# Altium footprint library DC-DC_conwertor.PcbLib: 10 footprints
Each footprint in its own frame and in the unit in brackets; x right, y up, seen from the top. Pads: shape width x height; smd on the part's side, far side on the other; paste and mask are expansions set on the pad; w line width, h text height; cw(c..) or ccw(c..) is an arc to the next point about the centre after c.
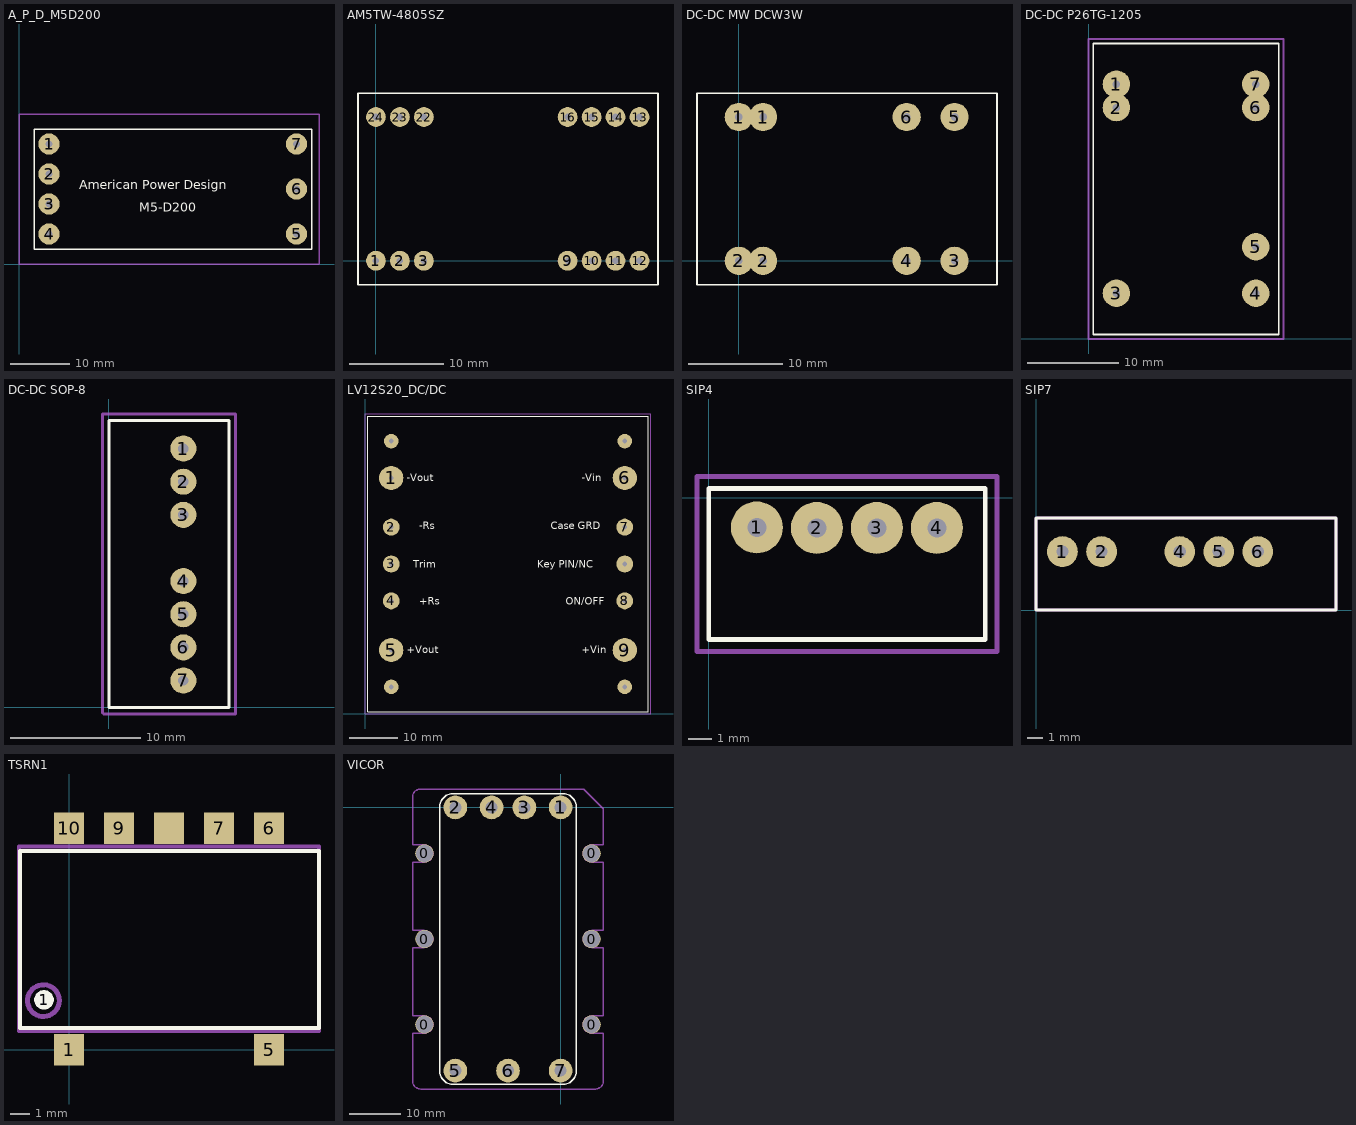
[diagram p0: the footprints below, top view; thin cyan lines are the x and y axes]

## A_P_D_M5D200 [mm]
pads (7):
  round 3.6 hole 1.2: 1(5.08,20.32) 2(5.08,15.24) 3(5.08,10.16) 4(5.08,5.08) 5(46.99,5.08) 6(46.99,12.7) 7(46.99,20.32)
Top Overlay:
  lines w0.254: 2.54,2.54 49.53,2.54 49.53,22.86 2.54,22.86 2.54,2.54
  text "American Power Design" at 10.16,12.7 h1.52
  text "M5-D200" at 20.32,8.89 h1.52
Mechanical 15:
  lines w0.254: 0,0 50.8,0 50.8,25.4 0,25.4 0,0

## AM5TW-4805SZ [mm]
pads (14):
  round 2.1 hole 0.7: 1(0,0) 2(2.54,0) 3(5.08,0) 9(20.32,0) 10(22.86,0) 11(25.4,0) 12(27.94,0) 13(27.94,15.24) 14(25.4,15.24) 15(22.86,15.24) 16(20.32,15.24) 22(5.08,15.24) 23(2.54,15.24) 24(0,15.24)
Top Overlay:
  lines w0.2: -1.9,-2.54 29.9,-2.54 29.9,17.76 -1.9,17.76 -1.9,-2.54
3D body "vawq3-q24-d12h.stp": height 10.2, standoff -3.8, extent -2.01,-2.522 29.79,17.778

## DC-DC MW DCW3W [mm]
pads (8):
  round 3 hole 0.8: 1(0,15.24) 1(2.56,15.24) 2(0,0) 2(2.56,0) 3(22.86,0) 4(17.78,0) 5(22.86,15.24) 6(17.78,15.24)
Top Overlay:
  lines w0.2: -4.44,-2.54 -4.44,17.76 27.36,17.76 27.36,-2.54 -4.44,-2.54
3D body "vawq3-q24-d12h.stp": height 10.2, standoff -3.8, extent -4.55,-2.522 27.25,17.778

## DC-DC P26TG-1205 [mm]
pads (7):
  round 3 hole 0.8: 1(3.04,27.86) 2(3.04,25.3) 3(3.04,5) 4(18.28,5) 5(18.28,10.08) 6(18.28,25.3) 7(18.28,27.86)
Top Overlay:
  lines w0.2: 0.5,0.5 20.8,0.5 20.8,32.3 0.5,32.3 0.5,0.5
Mechanical 15:
  lines w0.2: 0,0 0,32.8 21.3,32.8 21.3,0 0,0

## DC-DC SOP-8 [mm]
pads (7):
  round 2 hole 0.8: 1(5.7,19.85) 2(5.7,17.31) 3(5.7,14.77) 4(5.7,9.69) 5(5.7,7.15) 6(5.7,4.61) 7(5.7,2.07)
Top Overlay:
  lines w0.2: 0,0 9.2,0 9.2,22 0,22 0,0
Mechanical 15:
  lines w0.2: -0.5,-0.4 -0.4,-0.5 9.7,-0.5 9.7,22.5 -0.5,22.5 -0.5,-0.4

## LV12S20_DC/DC [mm]
pads (14):
  round 5 hole 1: 1(5.37,48.78) 5(5.37,13.22) 6(53.63,48.78) 9(53.63,13.22)
  round 3.5 hole 1: 2(5.37,38.62) 3(5.37,31) 4(5.37,23.38) 7(53.63,38.62) 8(53.63,23.38) ""(53.63,31)
  round 3 hole 1: ""(5.37,5.6) ""(5.37,56.4) ""(53.63,5.6) ""(53.63,56.4)
Top Overlay:
  lines w0.2: 0.5,0.5 0.5,61.5 58.45,61.5 58.45,0.5 0.5,0.5
  text "ON/OFF" at 41.399,22.6 h1.52
  text "Key PIN/NC" at 35.559,30.192 h1.52
  text "Case GRD" at 38.352,38.2 h1.52
  text "+Vin" at 44.7,12.6 h1.52
  text "-Vin" at 44.7,48.1 h1.52
  text "+Rs" at 11.139,22.6 h1.52
  text "-Rs" at 11.139,38.2 h1.52
  text "Trim" at 9.87,30.192 h1.52
  text "+Vout" at 8.6,12.6 h1.52
  text "-Vout" at 8.6,48.1 h1.52
Mechanical 15:
  lines w0.2: 0,0 59,0 59,62 0,62 0,0

## SIP4 [mm]
pads (4):
  round 2.2 hole 0.8: 1(2.032,-1.25) 2(4.572,-1.27) 3(7.112,-1.27) 4(9.652,-1.27)
Top Overlay:
  lines w0.2: 0,-6 0,0.4 0.4,0.4 2,0.4 11.7,0.4 11.7,-6 0,-6
Mechanical 15:
  lines w0.2: -0.5,-6.5 -0.5,0.9 12.2,0.9 12.2,-6.5 -0.5,-6.5

## SIP7 [mm]
pads (5):
  round 2 hole 0.8: 1(1.72,3.81) 2(4.26,3.81) 4(9.34,3.81) 5(11.88,3.81) 6(14.42,3.81)
Top Overlay:
  lines w0.2: 0,0 19.5,0 19.5,6 0,6 0,0
TopAssy:
  lines w0.2: 0,0 0,6 19.5,6 19.5,0 0,0
3D body: height 10, standoff 0, extent 0.001,0.001 19.499,5.999
3D body: height 0, standoff -2, extent 1.323,3.411 2.12,4.209
3D body: height 0, standoff -2, extent 3.863,3.411 4.66,4.209
3D body: height 0, standoff -2, extent 8.943,3.411 9.74,4.209
3D body: height 0, standoff -2, extent 11.483,3.411 12.28,4.209
3D body: height 0, standoff -2, extent 14.023,3.411 14.82,4.209

## TSRN1 [mm]
pads (8):
  round 1 on Top Overlay: 1(-1.27,2.54)
  rect 1.5x1.6 smd: 1(0,0) 5(10.16,0) 6(10.16,11.26) 7(7.62,11.26) 9(2.54,11.26) 10(0,11.26) ""(5.08,11.26)
Top Overlay:
  lines w0.2: -2.5,1.1 -2.5,10.1 12.7,10.1 12.7,1.1 -2.5,1.1
TopAssy:
  circle w0.254: c-1.3,2.5 r0.806
  lines w0.2: -2.54,0.965 12.7,0.965 12.7,10.325 -2.54,10.325 -2.54,0.965

## VICOR [mil]
height 500
pads (13):
  round 140 hole 130: 0(-1035,-1650) 0(-1035,-1000) 0(-1035,-350) 0(235,-1650) 0(235,-1000) 0(235,-350)
  round 180 hole 90: 1(0,0) 2(-800,0) 3(-275,0) 4(-525,0) 5(-800,-2000) 6(-400,-2000) 7(0,-2000)
Top Overlay:
  lines w10: -920,-2000 ccw(c-815,-2000) -815,-2105 15,-2105 ccw(c15,-2000) 120,-2000 120,0 ccw(c15,0) 15,105 -815,105 ccw(c-815,0) -920,0 -920,-2000
TopAssy:
  lines w10: -1125,-2080 ccw(c-1065,-2080) -1065,-2140 265,-2140 ccw(c265,-2080) 325,-2080 325,-1715 235,-1715 cw(c235,-1650) 235,-1585 325,-1585 325,-1065 235,-1065 cw(c235,-1000) 235,-935 325,-935 325,-415 235,-415 cw(c235,-350) 235,-285 325,-285 325,-10 175,140 -1065,140 ccw(c-1065,80) -1125,80 -1125,-285 -1035,-285 cw(c-1035,-350) -1035,-415 -1125,-415 -1125,-935 -1035,-935 cw(c-1035,-1000) -1035,-1065 -1125,-1065 -1125,-1585 -1035,-1585 cw(c-1035,-1650) -1035,-1715 -1125,-1715 -1125,-2080
3D body "SW3dPS-allen m3XX20 v2.STEP": height 638.19, standoff -287.4, extent 126.73,-458.26 343.27,-241.72
3D body "User Library-Female screw M3.STEP": height -21.89, standoff -140, extent 135.65,-463.63 334.35,-236.36
3D body "SW3dPS-allen m3XX20 v2.STEP": height 638.19, standoff -287.4, extent 126.73,-1108.26 343.27,-891.72
3D body "User Library-Female screw M3.STEP": height -21.89, standoff -140, extent 135.65,-1113.63 334.35,-886.36
3D body "SW3dPS-allen m3XX20 v2.STEP": height 638.19, standoff -287.4, extent 126.73,-1758.26 343.27,-1541.72
3D body "User Library-Female screw M3.STEP": height -21.89, standoff -140, extent 135.65,-1763.63 334.35,-1536.36
3D body "SW3dPS-allen m3XX20 v2.STEP": height 638.19, standoff -287.4, extent -1143.27,-1758.26 -926.73,-1541.72
3D body "User Library-Female screw M3.STEP": height -21.89, standoff -140, extent -1134.35,-1763.63 -935.65,-1536.36
3D body "SW3dPS-allen m3XX20 v2.STEP": height 638.19, standoff -287.4, extent -1143.27,-1108.26 -926.73,-891.72
3D body "User Library-Female screw M3.STEP": height -21.89, standoff -140, extent -1134.35,-1113.63 -935.65,-886.36
3D body "User Library-Female screw M3.STEP": height -21.89, standoff -140, extent -1134.35,-463.63 -935.65,-236.36
3D body "SW3dPS-allen m3XX20 v2.STEP": height 638.19, standoff -287.4, extent -1143.27,-458.26 -926.73,-241.72
3D body: height 300, standoff 70, extent -919.98,-2104.98 119.98,104.98
3D body: height 300, standoff 0, extent -925,-1870 125,-130
3D body: height 70, standoff -130, extent -39.98,-39.98 39.98,39.98
3D body: height 70, standoff -130, extent -314.98,-39.98 -235.02,39.98
3D body: height 70, standoff -130, extent -564.98,-39.98 -485.02,39.98
3D body: height 70, standoff -130, extent -839.98,-39.98 -760.02,39.98
3D body: height 70, standoff -130, extent -39.98,-2039.98 39.98,-1960.02
3D body: height 70, standoff -130, extent -439.98,-1999.98 -360.02,-1920.02
3D body: height 70, standoff -130, extent -839.98,-2039.98 -760.02,-1960.02
3D body: height 500, standoff 300, extent -1125.02,-2140.02 325.02,140.02